# Altium schematic symbol library 112J-TDAR-R01.SchLib: 1 symbol
Pins are listed as number, name and electrical type; pins without a type are passive.

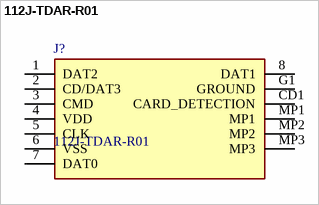
[diagram p0: symbol 112J-TDAR-R01]

## 112J-TDAR-R01
designator J?
Connector: for cards; SD Micro; push-push; SMT; gold-plated; Manufacturer_Name: ATTEND; Geometry.Height: 2mm; TME Electronic Components Part Number: *; TME Electronic Components Price/Stock: *; Manufacturer_Part_Number: 112J-TDAR-R01; Datasheet Link: https://cdn.sos.sk/productdata/2c/8b/de324bd3/112j-tdar-r01.pdf
footprint 112JTDARR01
pins: 1 DAT2, 2 CD/DAT3, 3 CMD, 4 VDD, 5 CLK, 6 VSS, 7 DAT0, 8 DAT1, CD1 CARD_DETECTION, G1 GROUND, MP1, MP2, MP3